# EAGLE library part FLAT-FLEX-CONNECTOR-RA-18POS (library FlashPCB_Connectors)
FLAT-FLEX-CONNECTOR-RA-18POS - Flat Flex Connector 18 position Right Angle Technical Specifications: Number of Positions: 18 Contact: Top or Bottom Mount: Right Angle
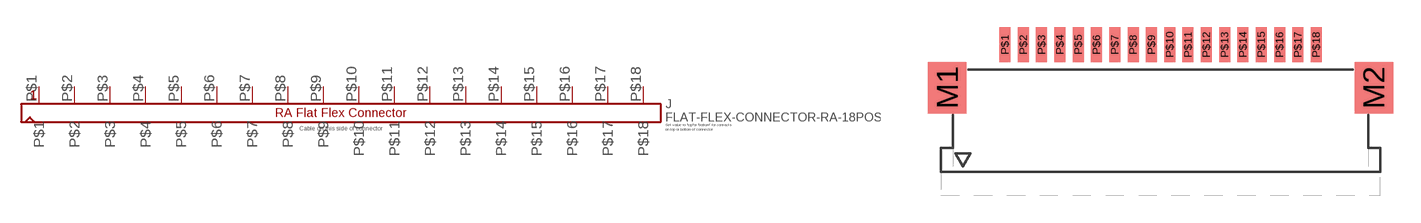
[diagram p113: symbol with the pads of FLAT-FLEX-CONNECTOR-MOLEX-522XX-RA-18POS; footprint FLAT-FLEX-CONNECTOR-MOLEX-522XX-RA-18POS]

Designator prefix J

## FLAT-FLEX-CONNECTOR-RA-18POS1MM-PITCH  [FLAT-FLEX-CONNECTOR-MOLEX-522XX-RA-18POS]
P$1  P$1
P$2  P$2
P$3  P$3
P$4  P$4
P$5  P$5
P$6  P$6
P$7  P$7
P$8  P$8
P$9  P$9
P$10  P$10
P$11  P$11
P$12  P$12
P$13  P$13
P$14  P$14
P$15  P$15
P$16  P$16
P$17  P$17
P$18  P$18

## Footprint FLAT-FLEX-CONNECTOR-MOLEX-522XX-RA-18POS (pad centres in mm)
smd 2.1 x 2.8: M1 -11.65,-1.4; M2 11.65,-1.4
smd 0.6 x 1.9: P$1 -8.5,0.95; P$2 -7.5,0.95; P$3 -6.5,0.95; P$4 -5.5,0.95; P$5 -4.5,0.95; P$6 -3.5,0.95; P$7 -2.5,0.95; P$8 -1.5,0.95; P$9 -0.5,0.95; P$10 0.5,0.95; P$11 1.5,0.95; P$12 2.5,0.95; P$13 3.5,0.95; P$14 4.5,0.95; P$15 5.5,0.95; P$16 6.5,0.95; P$17 7.5,0.95; P$18 8.5,0.95